# EAGLE library part 74AHTC125 (library DIP794W45P254L1969H508Q14)
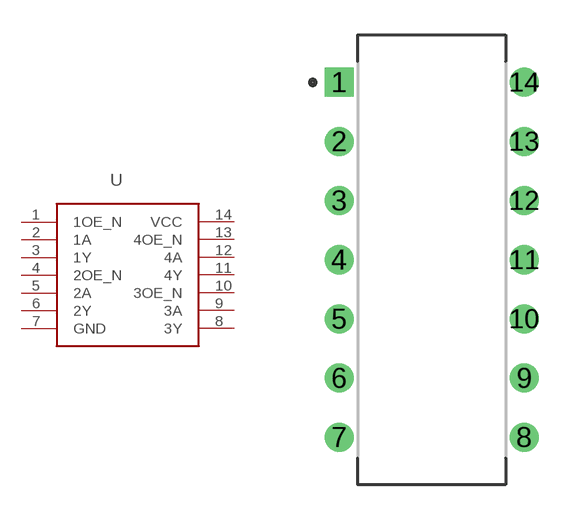
[diagram p0: symbol with the pads of DIP794W45P254L1969H508Q14; footprint DIP794W45P254L1969H508Q14]

Designator prefix -

## 74AHTC125  [DIP794W45P254L1969H508Q14]
1  1OE_N  in
2  1A  in
3  1Y  out
4  2OE_N  in
5  2A  in
6  2Y  out
7  GND  pwr
8  3Y  out
9  3A  in
10  3OE_N  in
11  4Y  out
12  4A  in
13  4OE_N  in
14  VCC  pwr

## Footprint DIP794W45P254L1969H508Q14 (pad centres in mm)
drill 0.74 pad 1.14 square: 1 -3.97,7.62
drill 0.74 pad 1.14: 2 -3.97,5.08; 3 -3.97,2.54; 4 -3.97,0; 5 -3.97,-2.54; 6 -3.97,-5.08; 7 -3.97,-7.62; 8 3.97,-7.62; 9 3.97,-5.08; 10 3.97,-2.54; 11 3.97,0; 12 3.97,2.54; 13 3.97,5.08; 14 3.97,7.62